# EAGLE library part MAX13487E (library SparkFun-IC-Comms)
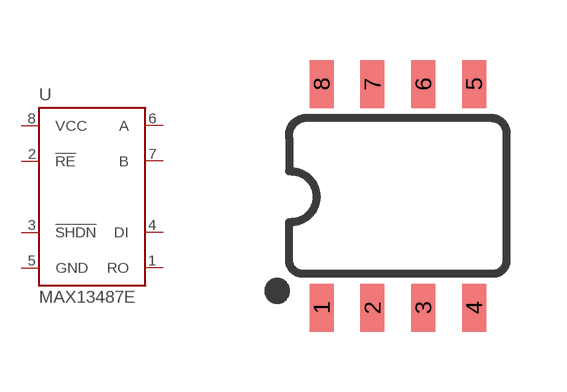
[diagram p4: symbol with the pads of SO08; footprint SO08]

Designator prefix U

## MAX13487E (PROD_ID: IC-13823)  [SO08]
1  RO
2  !RE
3  !SHDN
4  DI
5  GND
6  A
7  B
8  VCC

## Footprint SO08 (pad centres in mm)
SOIC -8 Specifications: Pin count: 8 Width: 0.15" Example device(s): MCP2551
smd 0.6 x 1.2: 1 -1.905,-2.8; 2 -0.635,-2.8; 3 0.635,-2.8; 4 1.905,-2.8; 5 1.905,2.8; 6 0.635,2.8; 7 -0.635,2.8; 8 -1.905,2.8